# Altium schematic symbol library PCI_slots.SchLib: 1 symbol
Pins are listed as number, name and electrical type; pins without a type are passive.

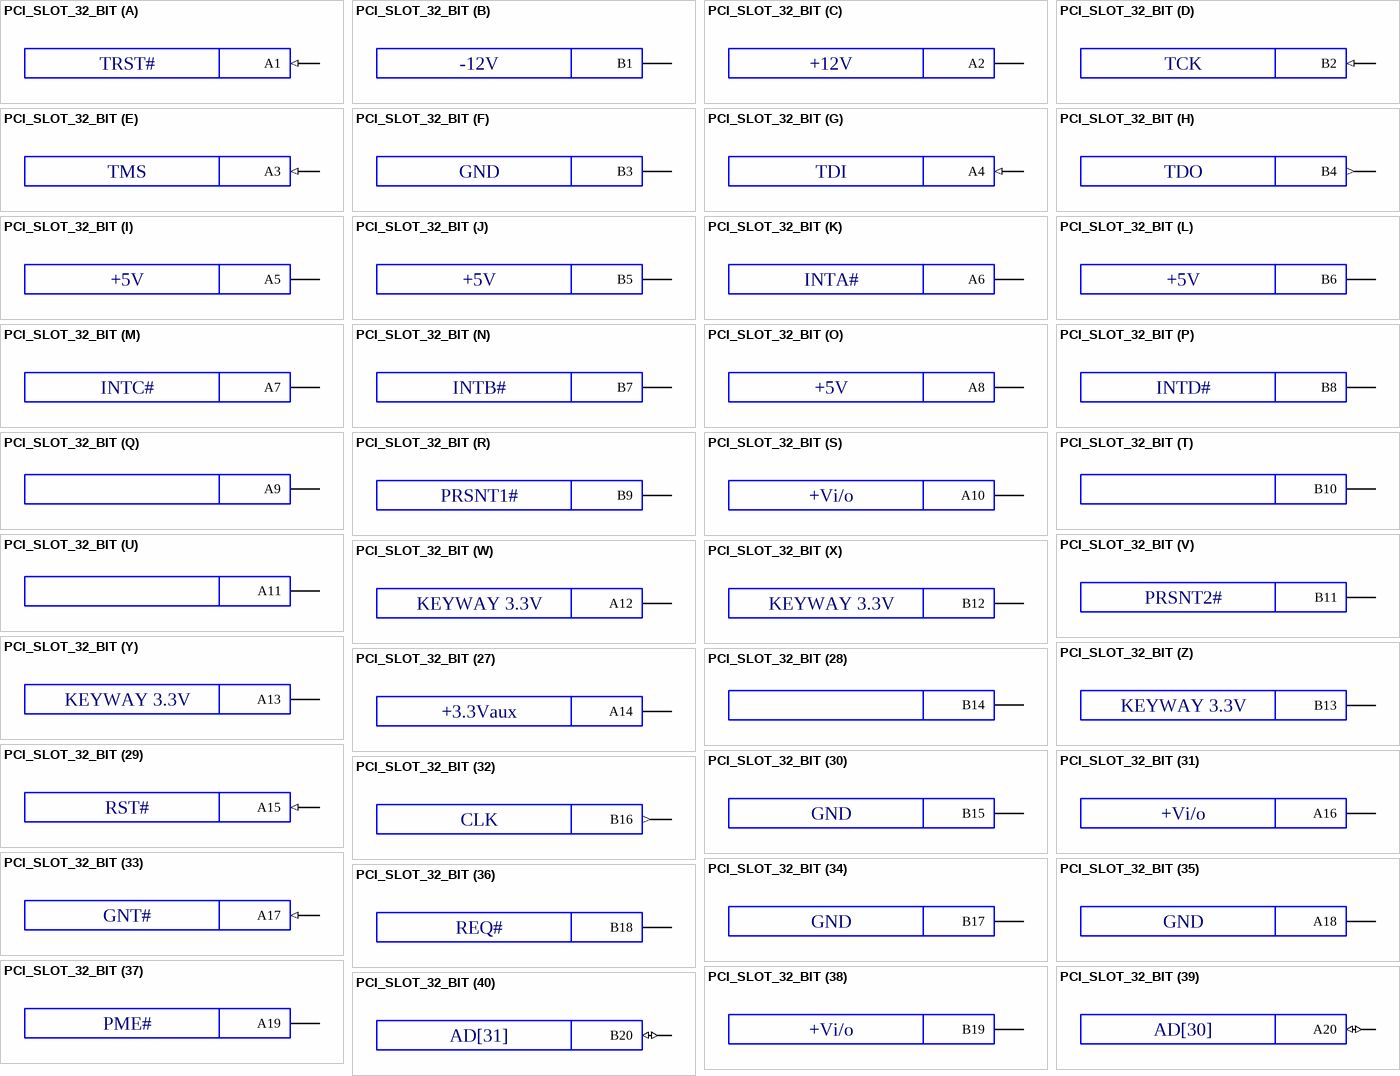
[diagram p0: symbol PCI_SLOT_32_BIT]

## PCI_SLOT_32_BIT
designator XC?  (value not drawn)  (no BOM)
Value: *
footprint PCI-32bit_Universal (PCI Universal 32-bit Card Edge Connector)
part A pins: A1 (in) "TRST#"
part B pins: B1 (power) "-12V"
part C pins: A2 (power) "+12V"
part D pins: B2 (in) "TCK"
part E pins: A3 (in) "TMS"
part F pins: B3 (power) "GND"
part G pins: A4 (in) "TDI"
part H pins: B4 (out) "TDO"
part I pins: A5 (power) "+5V"
part J pins: B5 (power) "+5V"
part K pins: A6 (oc) "INTA#"
part L pins: B6 (power) "+5V"
part M pins: A7 (oc) "INTC#"
part N pins: B7 (oc) "INTB#"
part O pins: A8 (power) "+5V"
part P pins: B8 (oc) "INTD#"
part Q pins: A9 "Reserved"
part R pins: B9 "PRSNT1#"
part S pins: A10 (power) "+Vio"
part T pins: B10 "Reserved"
part U pins: A11 "Reserved"
part V pins: B11 "PRSNT2#"
part W pins: A12 "KEYWAY 3.3V key"
part X pins: B12 "KEYWAY 3.3V key"
part Y pins: A13 "KEYWAY 3.3V key"
part Z pins: B13 "KEYWAY 3.3V key"
part 27 pins: A14 (power) "+3.3Vaux"
part 28 pins: B14 "Reserved"
part 29 pins: A15 (in) "RST#"
part 30 pins: B15 (power) "GND"
part 31 pins: A16 (power) "+Vi/o"
part 32 pins: B16 (out) "CLK"
part 33 pins: A17 (in) "GNT#"
part 34 pins: B17 (power) "GND"
part 35 pins: A18 (power) "GND"
part 36 pins: B18 (hiz) "REQ#"
part 37 pins: A19 (oc) "PME#"
part 38 pins: B19 (power) "+Vi/o"
part 39 pins: A20 (io) "AD[30]"
part 40 pins: B20 (io) "AD[31]"
part 41 pins: A21 (power) "+3.3V"
part 42 pins: B21 (io) "AD[29]"
part 43 pins: A22 (io) "AD[28]"
part 44 pins: B22 "GND"
part 45 pins: A23 (io) "AD[26]"
part 46 pins: B23 (io) "AD[27]"
part 47 pins: A24 (power) "GND"
part 48 pins: B24 (io) "AD[25]"
part 49 pins: A25 (io) "AD[24]"
part 50 pins: B25 (power) "+3.3V"
part 51 pins: A26 (in) "IDSEL"
part 52 pins: B26 (io) "C/BE[3]#"
part 53 pins: A27 (power) "+3.3V"
part 54 pins: B27 (io) "AD[23]"
part 55 pins: A28 (io) "AD[22]"
part 56 pins: B28 (power) "GND"
part 57 pins: A29 (io) "AD[20]"
part 58 pins: B29 (io) "AD[21]"
part 59 pins: A30 (power) "GND"
part 60 pins: B30 (io) "AD[19]"
part 61 pins: A31 (io) "AD[18]"
part 62 pins: B31 (power) "+3.3V"
part 63 pins: A32 (io) "AD[16]"
part 64 pins: B32 (io) "AD[17]"
part 65 pins: A33 (power) "+3.3V"
part 66 pins: B33 (io) "C/BE[2]#"
part 67 pins: A34 (in) "FRAME#"
part 68 pins: B34 (power) "GND"
part 69 pins: A35 (power) "GND"
part 70 pins: B35 (in) "IRDY#"
part 71 pins: A36 (hiz) "TRDY#"
part 72 pins: B36 (power) "+3.3V"
part 73 pins: A37 (power) "GND"
part 74 pins: B37 (hiz) "DEVSEL#"
part 75 pins: A38 (hiz) "STOP#"
part 76 pins: B38 "PCIXCAP"
part 77 pins: A39 (power) "+3.3V"
part 78 pins: B39 (hiz) "LOCK#"
part 79 pins: A40 (oc) "SMBCLK"
part 80 pins: B40 (io) "PERR#"
part 81 pins: A41 (oc) "SMBDAT"
part 82 pins: B41 (power) "+3.3V"
part 83 pins: A42 (power) "GND"
part 84 pins: B42 (oc) "SERR#"
part 85 pins: A43 (hiz) "PAR"
part 86 pins: B43 (power) "+3.3V"
part 87 pins: A44 (io) "AD[15]"
part 88 pins: B44 (io) "C/BE[1]#"
part 89 pins: A45 (power) "+3.3V"
part 90 pins: B45 (io) "AD[14]"
part 91 pins: A46 (io) "AD[13]"
part 92 pins: B46 (power) "GND"
part 93 pins: A47 (io) "AD[11]"
part 94 pins: B47 (io) "AD[12]"
part 95 pins: A48 (power) "GND"
part 96 pins: B48 (io) "AD[10]"
part 97 pins: A49 (io) "AD[09]"
part 98 pins: B49 "M66EN"
part 99 pins: A50 "KEYWAY 5V"
part 100 pins: B50 "KEYWAY 5V"
part 101 pins: A51 "KEYWAY 5V"
part 102 pins: B51 "KEYWAY 5V"
part 103 pins: A52 (io) "C/BE[0]#"
part 104 pins: B52 (io) "AD[08]"
part 105 pins: A53 (power) "+3.3V"
part 106 pins: B53 (io) "AD[07]"
part 107 pins: A54 (io) "AD[06]"
part 108 pins: B54 (power) "+3.3V"
part 109 pins: A55 (io) "AD[04]"
part 110 pins: B55 (io) "AD[05]"
part 111 pins: A56 (power) "GND"
part 112 pins: B56 (io) "AD[03]"
part 113 pins: A57 (io) "AD[02]"
part 114 pins: B57 (power) "GND"
part 115 pins: A58 (io) "AD[00]"
part 116 pins: B58 (io) "AD[01]"
part 117 pins: A59 (power) "+3.3V (I/O)"
part 118 pins: B59 (power) "+3.3V (I/O)"
part 119 pins: A60 (in) "REQ64#"
part 120 pins: B60 (in) "ACK64#"
part 121 pins: A61 (power) "+5V"
part 122 pins: B61 (power) "+5V"
part 123 pins: A62 (power) "+5V"
part 124 pins: B62 (power) "+5V"
1 alternate drawing of the same symbol
part A text: TRST#
part B text: -12V
part C text: +12V
part D text: TCK
part E text: TMS
part F text: GND
part G text: TDI
part H text: TDO
part I text: +5V
part J text: +5V
part K text: INTA#
part L text: +5V
part M text: INTC#
part N text: INTB#
part O text: +5V
part P text: INTD#
part R text: PRSNT1#
part S text: +Vi/o
part V text: PRSNT2#
part W text: KEYWAY 3.3V
part X text: KEYWAY 3.3V
part Y text: KEYWAY 3.3V
part Z text: KEYWAY 3.3V
part 27 text: +3.3Vaux
part 29 text: RST#
part 30 text: GND
part 31 text: +Vi/o
part 32 text: CLK
part 33 text: GNT#
part 34 text: GND
part 35 text: GND
part 36 text: REQ#
part 37 text: PME#
part 38 text: +Vi/o
part 39 text: AD[30]
part 40 text: AD[31]
part 41 text: +3.3V
part 42 text: AD[29]
part 43 text: AD[28]
part 44 text: GND
part 45 text: AD[26]
part 46 text: AD[27]
part 47 text: GND
part 48 text: AD[25]
part 49 text: AD[24]
part 50 text: +3.3V
part 51 text: IDSEL
part 52 text: C/BE[3]#
part 53 text: +3.3V
part 54 text: AD[23]
part 55 text: AD[22]
part 56 text: GND
part 57 text: AD[20]
part 58 text: AD[21]
part 59 text: GND
part 60 text: AD[19]
part 61 text: AD[18]
part 62 text: +3.3V
part 63 text: AD[16]
part 64 text: AD[17]
part 65 text: +3.3V
part 66 text: C/BE[2]#
part 67 text: FRAME#
part 68 text: GND
part 69 text: GND
part 70 text: IRDY#
part 71 text: TRDY#
part 72 text: +3.3V
part 73 text: GND
part 74 text: DEVSEL#
part 75 text: STOP#
part 76 text: PCIXCAP
part 77 text: +3.3V
part 78 text: LOCK#
part 79 text: SMBCLK
part 80 text: PERR#
part 81 text: SMBDAT
part 82 text: +3.3V
part 83 text: GND
part 84 text: SERR#
part 85 text: PAR
part 86 text: +3.3V
part 87 text: AD[15]
part 88 text: C/BE[1]#
part 89 text: +3.3V
part 90 text: AD[14]
part 91 text: AD[13]
part 92 text: GND
part 93 text: AD[11]
part 94 text: AD[12]
part 95 text: GND
part 96 text: AD[10]
part 97 text: AD[09]
part 98 text: M66EN
part 99 text: KEYWAY 5V
part 100 text: KEYWAY 5V
part 101 text: KEYWAY 5V
part 102 text: KEYWAY 5V
part 103 text: C/BE[0]#
part 104 text: AD[08]
part 105 text: +3.3V
part 106 text: AD[07]
part 107 text: AD[06]
part 108 text: +3.3V
part 109 text: AD[04]
part 110 text: AD[05]
part 111 text: GND
part 112 text: AD[03]
part 113 text: AD[02]
part 114 text: GND
part 115 text: AD[00]
part 116 text: AD[01]
part 117 text: +3.3V (I/O)
part 118 text: +3.3V (I/O)
part 119 text: REQ64#
part 120 text: ACK64#
part 121 text: +5V
part 122 text: +5V
part 123 text: +5V
part 124 text: +5V